# EAGLE library part LTC2945-QFN (library Raj)
LTC2945 Wide Range I2C Power Monitor
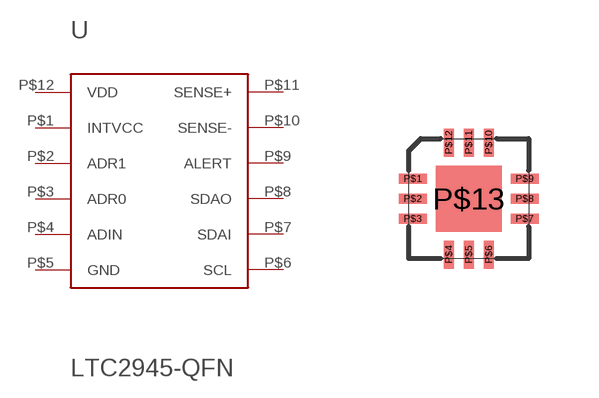
[diagram p2: symbol with the pads of QFN12; footprint QFN12]

Designator prefix -

## LTC2945-QFN  [QFN12]
P$1  INTVCC
P$2  ADR1
P$3  ADR0
P$4  ADIN
P$5  GND
P$6  SCL
P$7  SDAI
P$8  SDAO
P$9  ALERT
P$10  SENSE-
P$11  SENSE+
P$12  VDD

## Footprint QFN12 (pad centres in mm)
PQFN12 3mm x 3mm
smd 0.7 x 0.25: P$1 -1.4,0.5; P$2 -1.4,0; P$3 -1.4,-0.5; P$7 1.4,-0.5; P$8 1.4,0; P$9 1.4,0.5
smd 0.25 x 0.7: P$4 -0.5,-1.4; P$5 0,-1.4; P$6 0.5,-1.4; P$10 0.5,1.4; P$11 0,1.4; P$12 -0.5,1.4
smd 1.65 x 1.65: P$13 0,0